# Altium schematic symbol library PESD5V0S.Schlib: 1 symbol
Pins are listed as number, name and electrical type; pins without a type are passive.

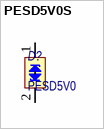
[diagram p0: symbol PESD5V0S]

## PESD5V0S
designator D?, comment PESD5V0
Low capacitance bidirectional ESD protection diodes; Назначение: ESD защитные диоды; Потребление, Вт: 0,000; Наименование: PESD5V0S1BA
footprint SOD-323 (SC-76 plastic surface mounted package; 2 leads)
pins: 1 cathode 1 (power), 2 cathode 2 (power)